# Altium integrated library NSC Interface.IntLib: 1288 symbols (part 8 of 45)
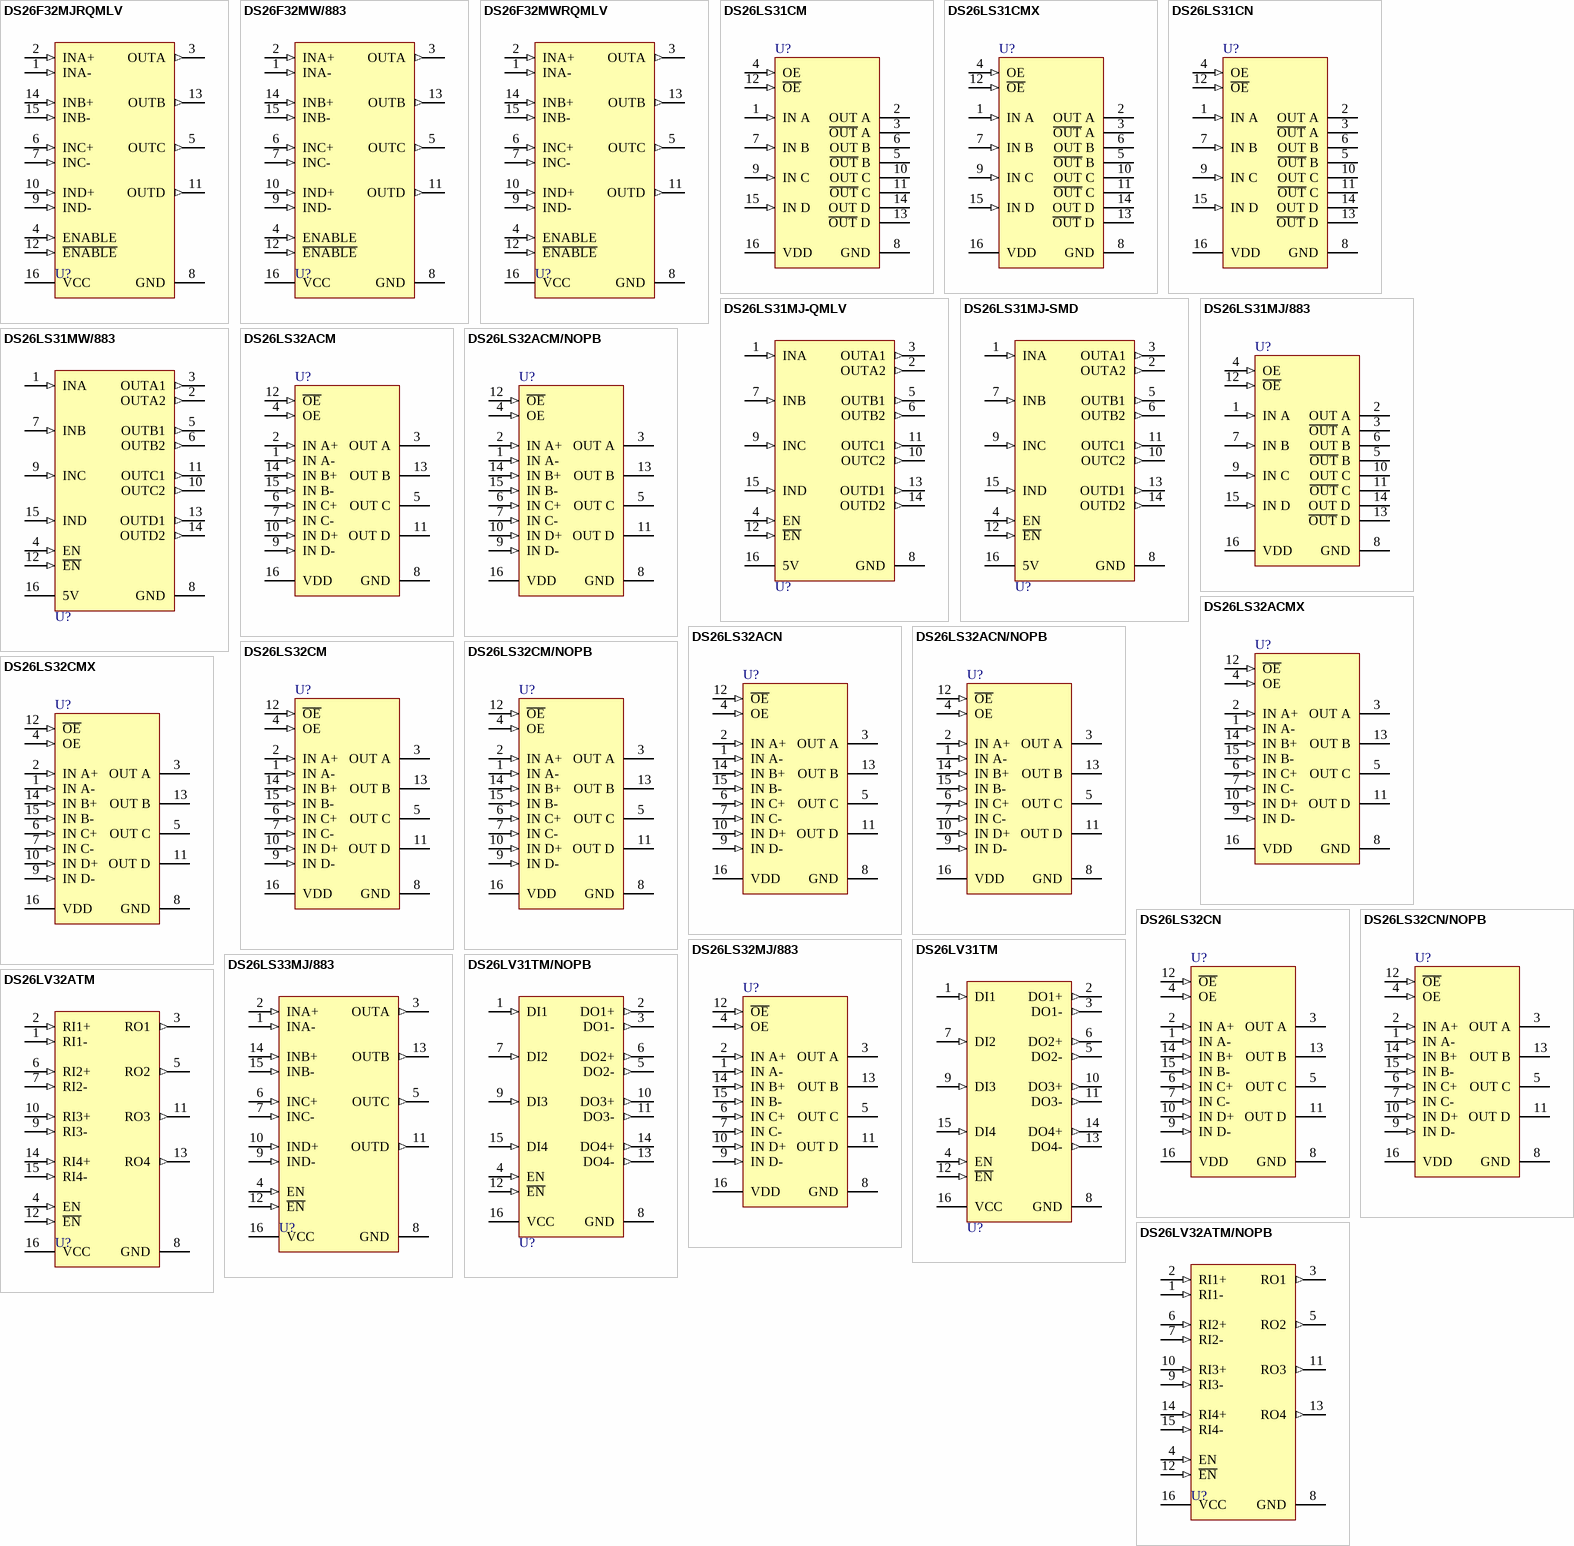
[diagram p119: symbols DS26F32MJRQMLV to DS26LV32ATM/NOPB]

## DS26LS31MJ-QMLV
designator U?
Quad High Speed Differential Line Driver, 16-pin CerDIP; PartNumber: DS26LS31MJ-SMD; Manufacturer: National Semiconductor; PackageTopMarking: NSZSSXXYYA*DS26LS31MJ-QV Q*5962-7802301VEA; PowerWise: N; CompType: Interface IC; High-Reliability: Y; Published: 4-Dec-2008; LatestRevisionDate: 01-Oct-2010; LatestRevisionNote: Updated datasheet to version Mar-2006.; DatasheetVersion: Mar-2006; PackageVersion: revL, Sep-1993; PackageReference: J16A; Publisher: Altium Limited; PackageDescription: Cerdip (J), 16 Lead; RoHS: N; PinCount: 16; ComponentLink1Description: DS26LS31M Datasheet; ComponentLink1URL: http://www.national.com/ds/DS/DS26LS31MQML.pdf; ComponentLink2Description: DS26LS31M Web Page; ComponentLink2URL: http://www.national.com/pf/DS/DS26LS31M.html; ComponentLink3Description: J16A Package Page; ComponentLink3URL: http://www.national.com/packaging/folders/j16a.html
footprint J16A (DIP, 16-Leads, Row Spacing 7.62mm, Pitch 2.54mm, Body 19.56x6.73mm)
pins: 1 INA (in), 2 OUTA2 (out), 3 OUTA1 (out), 4 EN (in), 5 OUTB1 (out), 6 OUTB2 (out), 7 INB (in), 8 GND (power), 9 INC (in), 10 OUTC2 (out), 11 OUTC1 (out), 12 ~{EN} (in), 13 OUTD1 (out), 14 OUTD2 (out), 15 IND (in), 16 5V (power)

## DS26LS31MJ-SMD
designator U?
Quad High Speed Differential Line Driver, 16-pin CerDIP; PartNumber: DS26LS31MJ/883; Manufacturer: National Semiconductor; PackageTopMarking: NSZSSXXYYA*5962-7802301MEA*27014 Q; PowerWise: N; CompType: Interface IC; High-Reliability: Y; Published: 4-Dec-2008; LatestRevisionDate: 01-Oct-2010; LatestRevisionNote: Updated datasheet to version Mar-2006.; DatasheetVersion: Mar-2006; PackageVersion: revL, Sep-1993; PackageReference: J16A; Publisher: Altium Limited; PackageDescription: Cerdip (J), 16 Lead; RoHS: N; PinCount: 16; ComponentLink1Description: DS26LS31M Datasheet; ComponentLink1URL: http://www.national.com/ds/DS/DS26LS31MQML.pdf; ComponentLink2Description: DS26LS31M Web Page; ComponentLink2URL: http://www.national.com/pf/DS/DS26LS31M.html; ComponentLink3Description: J16A Package Page; ComponentLink3URL: http://www.national.com/packaging/folders/j16a.html
footprint J16A (DIP, 16-Leads, Row Spacing 7.62mm, Pitch 2.54mm, Body 19.56x6.73mm)
pins: 1 INA (in), 2 OUTA2 (out), 3 OUTA1 (out), 4 EN (in), 5 OUTB1 (out), 6 OUTB2 (out), 7 INB (in), 8 GND (power), 9 INC (in), 10 OUTC2 (out), 11 OUTC1 (out), 12 ~{EN} (in), 13 OUTD1 (out), 14 OUTD2 (out), 15 IND (in), 16 5V (power)

## DS26LS31MJ/883
designator U?
Quad High Speed Differential Line Driver, 16-pin CerDIP; PartNumber: DS26LS31MJ-QMLV; Manufacturer: National Semiconductor; PackageTopMarking: NSZSSXXYYA*DS26LS31MJ/883 Q; PowerWise: N; CompType: Interface IC; High-Reliability: Y; Published: 4-Dec-2008; LatestRevisionDate: 01-Oct-2010; LatestRevisionNote: Updated datasheet to version Mar-2006.; DatasheetVersion: Mar-2006; PackageVersion: revL, Sep-1993; PackageReference: J16A; Publisher: Altium Limited; PackageDescription: Cerdip (J), 16 Lead; RoHS: N; PinCount: 16; ComponentLink1Description: DS26LS31M Datasheet; ComponentLink1URL: http://www.national.com/ds/DS/DS26LS31MQML.pdf; ComponentLink2Description: DS26LS31M Web Page; ComponentLink2URL: http://www.national.com/pf/DS/DS26LS31M.html; ComponentLink3Description: J16A Package Page; ComponentLink3URL: http://www.national.com/packaging/folders/j16a.html
footprint J16A (DIP, 16-Leads, Row Spacing 7.62mm, Pitch 2.54mm, Body 19.56x6.73mm)
pins: 1 IN A (in), 2 OUT A (hiz), 3 ~{OUT} A (hiz), 4 OE (in), 5 ~{OUT} B (hiz), 6 OUT B (hiz), 7 IN B (in), 8 GND (power), 9 IN C (in), 10 OUT C (hiz), 11 ~{OUT} C (hiz), 12 ~{OE} (in), 13 ~{OUT} D (hiz), 14 OUT D (hiz), 15 IN D (in), 16 VDD (power)

## DS26LS31MW/883
designator U?
Quad High Speed Differential Line Driver, 16-pin CerPACK; PartNumber: DS26LS31MW/883; Manufacturer: National Semiconductor; PackageTopMarking: NSZSSXXYYA*DS26LS31MW*/883 Q; PowerWise: N; CompType: Interface IC; High-Reliability: Y; Published: 29-May-2009; LatestRevisionDate: 01-Oct-2010; LatestRevisionNote: Updated datasheet to version Mar-2006.; DatasheetVersion: Mar-2006; PackageVersion: revT, Jul-2005; PackageReference: W16A; Publisher: Altium Limited; PackageDescription: Cerpack, .390 x .250 x .074in Body, 16 Lead, .050in Pitch; RoHS: N; PinCount: 16; Code_JEDEC: MO-092-AC; ComponentLink1Description: DS26LS31M Datasheet; ComponentLink1URL: http://www.national.com/ds/DS/DS26LS31MQML.pdf; ComponentLink2Description: DS26LS31M Web Page; ComponentLink2URL: http://www.national.com/pf/DS/DS26LS31M.html; ComponentLink3Description: W16A Package Page; ComponentLink3URL: http://www.national.com/packaging/folders/w16a.html
footprint W16A (DFP; 16 Leads; Body 9.9 x 7.6 mm (LxW max); Pitch 1.27 mm)
pins: 1 INA (in), 2 OUTA2 (out), 3 OUTA1 (out), 4 EN (in), 5 OUTB1 (out), 6 OUTB2 (out), 7 INB (in), 8 GND (power), 9 INC (in), 10 OUTC2 (out), 11 OUTC1 (out), 12 ~{EN} (in), 13 OUTD1 (out), 14 OUTD2 (out), 15 IND (in), 16 5V (power)

## DS26LS32ACM
designator U?
Quad Differential Line Receiver, 16-pin Narrow SOIC; PartNumber: DS26LS32ACM; Manufacturer: National Semiconductor; PackageTopMarking: NSUZXYTTE#*DS26LS32*ACM; PowerWise: N; CompType: Interface IC; Published: 4-Dec-2008; DatasheetVersion: May-1999; PackageVersion: revJ, Aug-1995; PackageReference: M16A; Publisher: Altium Limited; PackageDescription: Molded Package, SO, .150in Wide, 16 Lead; Supplier 1: Farnell; Supplier Part Number 1: 3177208; RoHS: N; PinCount: 16; Code_JEDEC: MS-012-AC; Code_IPC: SOIC127P600-16; ComponentLink1Description: DS26LS32AC Datasheet; ComponentLink1URL: http://www.national.com/ds/DS/DS26LS32AC.pdf; ComponentLink2Description: DS26LS32AC Web Page; ComponentLink2URL: http://www.national.com/pf/DS/DS26LS32AC.html; ComponentLink3Description: M16A Package Page; ComponentLink3URL: http://www.national.com/packaging/folders/m16a.html
footprint M16A_N (SOIC, 16-Leads, Body 9.9x3.9mm, Pitch 1.27mm, IPC Medium Density)
footprint M16A_L (SOIC, 16-Leads, Body 9.9x3.9mm, Pitch 1.27mm, IPC High Density)
footprint M16A_M (SOIC, 16-Leads, Body 9.9x3.9mm, Pitch 1.27mm, IPC Low Density)
pins: 1 IN A- (in), 2 IN A+ (in), 3 OUT A (hiz), 4 OE (in), 5 OUT C (hiz), 6 IN C+ (in), 7 IN C- (in), 8 GND (power), 9 IN D- (in), 10 IN D+ (in), 11 OUT D (hiz), 12 ~{OE} (in), 13 OUT B (hiz), 14 IN B+ (in), 15 IN B- (in), 16 VDD (power)

## DS26LS32ACM/NOPB
designator U?
Quad Differential Line Receivers, 16-pin Narrow SOIC, Pb-Free; PartNumber: DS26LS32ACM/NOPB; Manufacturer: National Semiconductor; PackageTopMarking: NSUZXYTTE#*DS26LS32*ACM; PowerWise: N; CompType: Interface IC; Published: 1-Mar-2010; DatasheetVersion: May-1999; PackageVersion: revJ, Aug-1995; PackageReference: M16A; Publisher: Altium Limited; PackageDescription: Molded Package, SO, .150in Wide, 16 Lead; Supplier 1: Digi-Key; Supplier Part Number 1: DS26LS32ACM-ND; Supplier 2: Farnell; Supplier Part Number 2: 1564610; RoHS: Y; PinCount: 16; Code_JEDEC: MS-012-AC; Code_IPC: SOIC127P600-16; ComponentLink1Description: DS26LS32AC Datasheet; ComponentLink1URL: http://www.national.com/ds/DS/DS26LS32AC.pdf; ComponentLink2Description: DS26LS32AC Web Page; ComponentLink2URL: http://www.national.com/pf/DS/DS26LS32AC.html; ComponentLink3Description: M16A Package Page; ComponentLink3URL: http://www.national.com/packaging/folders/m16a.html
footprint M16A_N (SOIC, 16-Leads, Body 9.9x3.9mm, Pitch 1.27mm, IPC Medium Density)
footprint M16A_L (SOIC, 16-Leads, Body 9.9x3.9mm, Pitch 1.27mm, IPC High Density)
footprint M16A_M (SOIC, 16-Leads, Body 9.9x3.9mm, Pitch 1.27mm, IPC Low Density)
pins: 1 IN A- (in), 2 IN A+ (in), 3 OUT A (hiz), 4 OE (in), 5 OUT C (hiz), 6 IN C+ (in), 7 IN C- (in), 8 GND (power), 9 IN D- (in), 10 IN D+ (in), 11 OUT D (hiz), 12 ~{OE} (in), 13 OUT B (hiz), 14 IN B+ (in), 15 IN B- (in), 16 VDD (power)

## DS26LS32ACMX
designator U?
Quad Differential Line Receivers, 16-pin Narrow SOIC; PartNumber: DS26LS32ACMX; Manufacturer: National Semiconductor; PackageTopMarking: NSUZXYTTE#*DS26LS32*ACM; PowerWise: N; CompType: Interface IC; Published: 1-Mar-2010; DatasheetVersion: May-1999; PackageVersion: revJ, Aug-1995; PackageReference: M16A; Publisher: Altium Limited; PackageDescription: Molded Package, SO, .150in Wide, 16 Lead; RoHS: N; PinCount: 16; Code_JEDEC: MS-012-AC; Code_IPC: SOIC127P600-16; ComponentLink1Description: DS26LS32AC Datasheet; ComponentLink1URL: http://www.national.com/ds/DS/DS26LS32AC.pdf; ComponentLink2Description: DS26LS32AC Web Page; ComponentLink2URL: http://www.national.com/pf/DS/DS26LS32AC.html; ComponentLink3Description: M16A Package Page; ComponentLink3URL: http://www.national.com/packaging/folders/m16a.html
footprint M16A_N (SOIC, 16-Leads, Body 9.9x3.9mm, Pitch 1.27mm, IPC Medium Density)
footprint M16A_L (SOIC, 16-Leads, Body 9.9x3.9mm, Pitch 1.27mm, IPC High Density)
footprint M16A_M (SOIC, 16-Leads, Body 9.9x3.9mm, Pitch 1.27mm, IPC Low Density)
pins: 1 IN A- (in), 2 IN A+ (in), 3 OUT A (hiz), 4 OE (in), 5 OUT C (hiz), 6 IN C+ (in), 7 IN C- (in), 8 GND (power), 9 IN D- (in), 10 IN D+ (in), 11 OUT D (hiz), 12 ~{OE} (in), 13 OUT B (hiz), 14 IN B+ (in), 15 IN B- (in), 16 VDD (power)

## DS26LS32ACN
designator U?
Quad Differential Line Receiver, 16-pin MDIP; PartNumber: DS26LS32ACN; Manufacturer: National Semiconductor; PackageTopMarking: NSUZXYYTTE#*DS26LS32ACN; PowerWise: N; CompType: Interface IC; Published: 4-Dec-2008; DatasheetVersion: May-1999; PackageVersion: revG, May-2006; PackageReference: N16E; Publisher: Altium Limited; PackageDescription: MDIP, .750 x .250 x .130in, 16 Lead, .100in Pitch; Supplier 1: Farnell; Supplier Part Number 1: 9487956; RoHS: N; PinCount: 16; Code_JEDEC: MS-001-BB; ComponentLink1Description: DS26LS32AC Datasheet; ComponentLink1URL: http://www.national.com/ds/DS/DS26LS32AC.pdf; ComponentLink2Description: DS26LS32AC Web Page; ComponentLink2URL: http://www.national.com/pf/DS/DS26LS32AC.html; ComponentLink3Description: N16E Package Page; ComponentLink3URL: http://www.national.com/packaging/folders/n16e.html
footprint N16E (DIP, 16-Leads, Row Spacing 7.62mm, Pitch 2.54mm, Body 19.3x6.35mm)
pins: 1 IN A- (in), 2 IN A+ (in), 3 OUT A (hiz), 4 OE (in), 5 OUT C (hiz), 6 IN C+ (in), 7 IN C- (in), 8 GND (power), 9 IN D- (in), 10 IN D+ (in), 11 OUT D (hiz), 12 ~{OE} (in), 13 OUT B (hiz), 14 IN B+ (in), 15 IN B- (in), 16 VDD (power)

## DS26LS32ACN/NOPB
designator U?
Quad Differential Line Receivers, 16-pin MDIP, Pb-Free; PartNumber: DS26LS32ACN/NOPB; Manufacturer: National Semiconductor; PackageTopMarking: NSUZXYYTTE#*DS26LS32ACN; PowerWise: N; CompType: Interface IC; Published: 1-Mar-2010; DatasheetVersion: May-1999; PackageVersion: revG, May-2006; PackageReference: N16E; Publisher: Altium Limited; PackageDescription: MDIP, .750 x .250 x .130in, 16 Lead, .100in Pitch; Supplier 1: Digi-Key; Supplier Part Number 1: DS26LS32ACN-ND; Supplier 2: Farnell; Supplier Part Number 2: 1149946; RoHS: Y; PinCount: 16; Code_JEDEC: MS-001-BB; ComponentLink1Description: DS26LS32AC Datasheet; ComponentLink1URL: http://www.national.com/ds/DS/DS26LS32AC.pdf; ComponentLink2Description: DS26LS32AC Web Page; ComponentLink2URL: http://www.national.com/pf/DS/DS26LS32AC.html; ComponentLink3Description: N16E Package Page; ComponentLink3URL: http://www.national.com/packaging/folders/n16e.html
footprint N16E (DIP, 16-Leads, Row Spacing 7.62mm, Pitch 2.54mm, Body 19.3x6.35mm)
pins: 1 IN A- (in), 2 IN A+ (in), 3 OUT A (hiz), 4 OE (in), 5 OUT C (hiz), 6 IN C+ (in), 7 IN C- (in), 8 GND (power), 9 IN D- (in), 10 IN D+ (in), 11 OUT D (hiz), 12 ~{OE} (in), 13 OUT B (hiz), 14 IN B+ (in), 15 IN B- (in), 16 VDD (power)

## DS26LS32CM
designator U?
Quad Differential Line Receiver, 16-pin Narrow SOIC; PartNumber: DS26LS32CM; Manufacturer: National Semiconductor; PackageTopMarking: NSUZXYTTE#*DS26LS32CM; PowerWise: N; CompType: Interface IC; Published: 4-Dec-2008; DatasheetVersion: May-1999; PackageVersion: revJ, Aug-1995; PackageReference: M16A; Publisher: Altium Limited; PackageDescription: Molded Package, SO, .150in Wide, 16 Lead; Supplier 1: Farnell; Supplier Part Number 1: 9487964; RoHS: N; PinCount: 16; Code_JEDEC: MS-012-AC; Code_IPC: SOIC127P600-16; ComponentLink1Description: DS26LS32C Datasheet; ComponentLink1URL: http://www.national.com/ds/DS/DS26LS32C.pdf; ComponentLink2Description: DS26LS32C Web Page; ComponentLink2URL: http://www.national.com/pf/DS/DS26LS32C.html; ComponentLink3Description: M16A Package Page; ComponentLink3URL: http://www.national.com/packaging/folders/m16a.html
footprint M16A_N (SOIC, 16-Leads, Body 9.9x3.9mm, Pitch 1.27mm, IPC Medium Density)
footprint M16A_L (SOIC, 16-Leads, Body 9.9x3.9mm, Pitch 1.27mm, IPC High Density)
footprint M16A_M (SOIC, 16-Leads, Body 9.9x3.9mm, Pitch 1.27mm, IPC Low Density)
pins: 1 IN A- (in), 2 IN A+ (in), 3 OUT A (hiz), 4 OE (in), 5 OUT C (hiz), 6 IN C+ (in), 7 IN C- (in), 8 GND (power), 9 IN D- (in), 10 IN D+ (in), 11 OUT D (hiz), 12 ~{OE} (in), 13 OUT B (hiz), 14 IN B+ (in), 15 IN B- (in), 16 VDD (power)

## DS26LS32CM/NOPB
designator U?
Quad Differential Line Receivers, 16-pin Narrow SOIC, Pb-Free; PartNumber: DS26LS32CM/NOPB; Manufacturer: National Semiconductor; PackageTopMarking: NSUZXYTTE#*DS26LS32CM; PowerWise: N; CompType: Interface IC; Published: 1-Mar-2010; DatasheetVersion: May-1999; PackageVersion: revJ, Aug-1995; PackageReference: M16A; Publisher: Altium Limited; PackageDescription: Molded Package, SO, .150in Wide, 16 Lead; Supplier 1: Digi-Key; Supplier Part Number 1: DS26LS32CM-ND; Supplier 2: Farnell; Supplier Part Number 2: 1184954; RoHS: Y; PinCount: 16; Code_JEDEC: MS-012-AC; Code_IPC: SOIC127P600-16; ComponentLink1Description: DS26LS32C Datasheet; ComponentLink1URL: http://www.national.com/ds/DS/DS26LS32C.pdf; ComponentLink2Description: DS26LS32C Web Page; ComponentLink2URL: http://www.national.com/pf/DS/DS26LS32C.html; ComponentLink3Description: M16A Package Page; ComponentLink3URL: http://www.national.com/packaging/folders/m16a.html
footprint M16A_N (SOIC, 16-Leads, Body 9.9x3.9mm, Pitch 1.27mm, IPC Medium Density)
footprint M16A_L (SOIC, 16-Leads, Body 9.9x3.9mm, Pitch 1.27mm, IPC High Density)
footprint M16A_M (SOIC, 16-Leads, Body 9.9x3.9mm, Pitch 1.27mm, IPC Low Density)
pins: 1 IN A- (in), 2 IN A+ (in), 3 OUT A (hiz), 4 OE (in), 5 OUT C (hiz), 6 IN C+ (in), 7 IN C- (in), 8 GND (power), 9 IN D- (in), 10 IN D+ (in), 11 OUT D (hiz), 12 ~{OE} (in), 13 OUT B (hiz), 14 IN B+ (in), 15 IN B- (in), 16 VDD (power)

## DS26LS32CMX
designator U?
Quad Differential Line Receivers, 16-pin Narrow SOIC; PartNumber: DS26LS32CMX; Manufacturer: National Semiconductor; PackageTopMarking: NSUZXYTTE#*DS26LS32CM; PowerWise: N; CompType: Interface IC; Published: 1-Mar-2010; DatasheetVersion: May-1999; PackageVersion: revJ, Aug-1995; PackageReference: M16A; Publisher: Altium Limited; PackageDescription: Molded Package, SO, .150in Wide, 16 Lead; RoHS: N; PinCount: 16; Code_JEDEC: MS-012-AC; Code_IPC: SOIC127P600-16; ComponentLink1Description: DS26LS32C Datasheet; ComponentLink1URL: http://www.national.com/ds/DS/DS26LS32C.pdf; ComponentLink2Description: DS26LS32C Web Page; ComponentLink2URL: http://www.national.com/pf/DS/DS26LS32C.html; ComponentLink3Description: M16A Package Page; ComponentLink3URL: http://www.national.com/packaging/folders/m16a.html
footprint M16A_N (SOIC, 16-Leads, Body 9.9x3.9mm, Pitch 1.27mm, IPC Medium Density)
footprint M16A_L (SOIC, 16-Leads, Body 9.9x3.9mm, Pitch 1.27mm, IPC High Density)
footprint M16A_M (SOIC, 16-Leads, Body 9.9x3.9mm, Pitch 1.27mm, IPC Low Density)
pins: 1 IN A- (in), 2 IN A+ (in), 3 OUT A (hiz), 4 OE (in), 5 OUT C (hiz), 6 IN C+ (in), 7 IN C- (in), 8 GND (power), 9 IN D- (in), 10 IN D+ (in), 11 OUT D (hiz), 12 ~{OE} (in), 13 OUT B (hiz), 14 IN B+ (in), 15 IN B- (in), 16 VDD (power)

## DS26LS32CN
designator U?
Quad Differential Line Receiver, 16-pin MDIP; PartNumber: DS26LS32CN; Manufacturer: National Semiconductor; PackageTopMarking: NSUZXYYTTE#*DS26LS32CN; PowerWise: N; CompType: Interface IC; Published: 4-Dec-2008; DatasheetVersion: May-1999; PackageVersion: revG, May-2006; PackageReference: N16E; Publisher: Altium Limited; PackageDescription: MDIP, .750 x .250 x .130in, 16 Lead, .100in Pitch; Supplier 1: Farnell; Supplier Part Number 1: 9487972; RoHS: N; PinCount: 16; Code_JEDEC: MS-001-BB; ComponentLink1Description: DS26LS32C Datasheet; ComponentLink1URL: http://www.national.com/ds/DS/DS26LS32C.pdf; ComponentLink2Description: DS26LS32C Web Page; ComponentLink2URL: http://www.national.com/pf/DS/DS26LS32C.html; ComponentLink3Description: N16E Package Page; ComponentLink3URL: http://www.national.com/packaging/folders/n16e.html
footprint N16E (DIP, 16-Leads, Row Spacing 7.62mm, Pitch 2.54mm, Body 19.3x6.35mm)
pins: 1 IN A- (in), 2 IN A+ (in), 3 OUT A (hiz), 4 OE (in), 5 OUT C (hiz), 6 IN C+ (in), 7 IN C- (in), 8 GND (power), 9 IN D- (in), 10 IN D+ (in), 11 OUT D (hiz), 12 ~{OE} (in), 13 OUT B (hiz), 14 IN B+ (in), 15 IN B- (in), 16 VDD (power)

## DS26LS32CN/NOPB
designator U?
Quad Differential Line Receivers, 16-pin MDIP, Pb-Free; PartNumber: DS26LS32CN/NOPB; Manufacturer: National Semiconductor; PackageTopMarking: NSUZXYYTTE#*DS26LS32CN; PowerWise: N; CompType: Interface IC; Published: 1-Mar-2010; DatasheetVersion: May-1999; PackageVersion: revG, May-2006; PackageReference: N16E; Publisher: Altium Limited; PackageDescription: MDIP, .750 x .250 x .130in, 16 Lead, .100in Pitch; Supplier 1: Digi-Key; Supplier Part Number 1: DS26LS32CN-ND; Supplier 2: Farnell; Supplier Part Number 2: 1149947; RoHS: Y; PinCount: 16; Code_JEDEC: MS-001-BB; ComponentLink1Description: DS26LS32C Datasheet; ComponentLink1URL: http://www.national.com/ds/DS/DS26LS32C.pdf; ComponentLink2Description: DS26LS32C Web Page; ComponentLink2URL: http://www.national.com/pf/DS/DS26LS32C.html; ComponentLink3Description: N16E Package Page; ComponentLink3URL: http://www.national.com/packaging/folders/n16e.html
footprint N16E (DIP, 16-Leads, Row Spacing 7.62mm, Pitch 2.54mm, Body 19.3x6.35mm)
pins: 1 IN A- (in), 2 IN A+ (in), 3 OUT A (hiz), 4 OE (in), 5 OUT C (hiz), 6 IN C+ (in), 7 IN C- (in), 8 GND (power), 9 IN D- (in), 10 IN D+ (in), 11 OUT D (hiz), 12 ~{OE} (in), 13 OUT B (hiz), 14 IN B+ (in), 15 IN B- (in), 16 VDD (power)

## DS26LS32MJ/883
designator U?
Quad Differential Line Receiver, 16-pin CerDIP; PartNumber: DS26LS32MJ/883; Manufacturer: National Semiconductor; PackageTopMarking: NSZSSXXYYA*5962-7802006QEA*DS26LS32MJ/883 Q; PowerWise: N; CompType: Interface IC; High-Reliability: Y; Published: 4-Dec-2008; DatasheetVersion: May-1999; PackageVersion: revL, Sep-1993; PackageReference: J16A; Publisher: Altium Limited; PackageDescription: Cerdip (J), 16 Lead; RoHS: N; PinCount: 16; ComponentLink1Description: DS26LS32M Datasheet; ComponentLink1URL: http://www.national.com/ds/DS/DS26LS32MQML.pdf; ComponentLink2Description: DS26LS32M Web Page; ComponentLink2URL: http://www.national.com/pf/DS/DS26LS32M.html; ComponentLink3Description: J16A Package Page; ComponentLink3URL: http://www.national.com/packaging/folders/j16a.html
footprint J16A (DIP, 16-Leads, Row Spacing 7.62mm, Pitch 2.54mm, Body 19.56x6.73mm)
pins: 1 IN A- (in), 2 IN A+ (in), 3 OUT A (hiz), 4 OE (in), 5 OUT C (hiz), 6 IN C+ (in), 7 IN C- (in), 8 GND (power), 9 IN D- (in), 10 IN D+ (in), 11 OUT D (hiz), 12 ~{OE} (in), 13 OUT B (hiz), 14 IN B+ (in), 15 IN B- (in), 16 VDD (power)

## DS26LS33MJ/883
designator U?
Quad Differential Line Receiver, 16-pin CerDIP; PartNumber: DS26LS33MJ/883; Manufacturer: National Semiconductor; PackageTopMarking: NSZSSXXYYA*DS26LS33MJ/883 Q; PowerWise: N; CompType: Interface IC; High-Reliability: Y; Published: 4-Dec-2008; DatasheetVersion: May-1999; PackageVersion: revL, Sep-1993; PackageReference: J16A; Publisher: Altium Limited; PackageDescription: Cerdip (J), 16 Lead; RoHS: N; PinCount: 16; ComponentLink1Description: DS26LS33M Datasheet; ComponentLink1URL: http://www.national.com/ds/DS/DS26LS33M.pdf; ComponentLink2Description: DS26LS33M Web Page; ComponentLink2URL: http://www.national.com/pf/DS/DS26LS33M.html; ComponentLink3Description: J16A Package Page; ComponentLink3URL: http://www.national.com/packaging/folders/j16a.html
footprint J16A (DIP, 16-Leads, Row Spacing 7.62mm, Pitch 2.54mm, Body 19.56x6.73mm)
pins: 1 INA- (in), 2 INA+ (in), 3 OUTA (out), 4 EN (in), 5 OUTC (out), 6 INC+ (in), 7 INC- (in), 8 GND (power), 9 IND- (in), 10 IND+ (in), 11 OUTD (out), 12 ~{EN} (in), 13 OUTB (out), 14 INB+ (in), 15 INB- (in), 16 VCC (power)

## DS26LV31TM
designator U?
3V Enhanced CMOS Quad Differential Line Driver, 16-pin Narrow SOIC; PartNumber: DS26LV31TM; Manufacturer: National Semiconductor; PackageTopMarking: NSUZXYTTE#*DS26LV31*TM; PowerWise: N; CompType: Interface IC; Published: 4-Dec-2008; DatasheetVersion: Mar-2000; PackageVersion: revJ, Aug-1995; PackageReference: M16A; Publisher: Altium Limited; PackageDescription: Molded Package, SO, .150in Wide, 16 Lead; Supplier 1: Farnell; Supplier Part Number 1: 198225; RoHS: N; PinCount: 16; Code_JEDEC: MS-012-AC; Code_IPC: SOIC127P600-16; ComponentLink1Description: DS26LV31T Datasheet; ComponentLink1URL: http://www.national.com/ds/DS/DS26LV31T.pdf; ComponentLink2Description: DS26LV31T Web Page; ComponentLink2URL: http://www.national.com/pf/DS/DS26LV31T.html; ComponentLink3Description: M16A Package Page; ComponentLink3URL: http://www.national.com/packaging/folders/m16a.html
footprint M16A_N (SOIC, 16-Leads, Body 9.9x3.9mm, Pitch 1.27mm, IPC Medium Density)
footprint M16A_L (SOIC, 16-Leads, Body 9.9x3.9mm, Pitch 1.27mm, IPC High Density)
footprint M16A_M (SOIC, 16-Leads, Body 9.9x3.9mm, Pitch 1.27mm, IPC Low Density)
pins: 1 DI1 (in), 2 DO1+ (out), 3 DO1- (out), 4 EN (in), 5 DO2- (out), 6 DO2+ (out), 7 DI2 (in), 8 GND (power), 9 DI3 (in), 10 DO3+ (out), 11 DO3- (out), 12 ~{EN} (in), 13 DO4- (out), 14 DO4+ (out), 15 DI4 (in), 16 VCC (power)

## DS26LV31TM/NOPB
designator U?
3V Enhanced CMOS Quad Differential Line Driver, 16-pin Narrow SOIC, Pb-Free; PartNumber: DS26LV31TM/NOPB; Manufacturer: National Semiconductor; PackageTopMarking: NSUZXYTTE#*DS26LV31*TM; PowerWise: N; CompType: Interface IC; Published: 1-Mar-2010; DatasheetVersion: Mar-2000; PackageVersion: revJ, Aug-1995; PackageReference: M16A; Publisher: Altium Limited; PackageDescription: Molded Package, SO, .150in Wide, 16 Lead; Supplier 1: Digi-Key; Supplier Part Number 1: DS26LV31TM-ND; Supplier 2: Farnell; Supplier Part Number 2: 1468969; RoHS: Y; PinCount: 16; Code_JEDEC: MS-012-AC; Code_IPC: SOIC127P600-16; ComponentLink1Description: DS26LV31T Datasheet; ComponentLink1URL: http://www.national.com/ds/DS/DS26LV31T.pdf; ComponentLink2Description: DS26LV31T Web Page; ComponentLink2URL: http://www.national.com/pf/DS/DS26LV31T.html; ComponentLink3Description: M16A Package Page; ComponentLink3URL: http://www.national.com/packaging/folders/m16a.html
footprint M16A_N (SOIC, 16-Leads, Body 9.9x3.9mm, Pitch 1.27mm, IPC Medium Density)
footprint M16A_L (SOIC, 16-Leads, Body 9.9x3.9mm, Pitch 1.27mm, IPC High Density)
footprint M16A_M (SOIC, 16-Leads, Body 9.9x3.9mm, Pitch 1.27mm, IPC Low Density)
pins: 1 DI1 (in), 2 DO1+ (out), 3 DO1- (out), 4 EN (in), 5 DO2- (out), 6 DO2+ (out), 7 DI2 (in), 8 GND (power), 9 DI3 (in), 10 DO3+ (out), 11 DO3- (out), 12 ~{EN} (in), 13 DO4- (out), 14 DO4+ (out), 15 DI4 (in), 16 VCC (power)

## DS26LV32ATM
designator U?
3V Enhanced CMOS Quad Differential Line Receiver, 16-pin Narrow SOIC; PartNumber: DS26LV32ATM; Manufacturer: National Semiconductor; PackageTopMarking: NSUZXYTTE#*DS26LV32A*TM; PowerWise: N; CompType: Interface IC; Published: 4-Dec-2008; DatasheetVersion: Apr-2008; PackageVersion: revJ, Aug-1995; PackageReference: M16A; Publisher: Altium Limited; PackageDescription: Molded Package, SO, .150in Wide, 16 Lead; Supplier 1: Farnell; Supplier Part Number 1: 198237; RoHS: N; PinCount: 16; Code_JEDEC: MS-012-AC; Code_IPC: SOIC127P600-16; ComponentLink1Description: DS26LV32AT Datasheet; ComponentLink1URL: http://www.national.com/ds/DS/DS26LV32AT.pdf; ComponentLink2Description: DS26LV32AT Web Page; ComponentLink2URL: http://www.national.com/pf/DS/DS26LV32AT.html; ComponentLink3Description: M16A Package Page; ComponentLink3URL: http://www.national.com/packaging/folders/m16a.html
footprint M16A_N (SOIC, 16-Leads, Body 9.9x3.9mm, Pitch 1.27mm, IPC Medium Density)
footprint M16A_L (SOIC, 16-Leads, Body 9.9x3.9mm, Pitch 1.27mm, IPC High Density)
footprint M16A_M (SOIC, 16-Leads, Body 9.9x3.9mm, Pitch 1.27mm, IPC Low Density)
pins: 1 RI1- (in), 2 RI1+ (in), 3 RO1 (out), 4 EN (in), 5 RO2 (out), 6 RI2+ (in), 7 RI2- (in), 8 GND (power), 9 RI3- (in), 10 RI3+ (in), 11 RO3 (out), 12 ~{EN} (in), 13 RO4 (out), 14 RI4+ (in), 15 RI4- (in), 16 VCC (power)

## DS26LV32ATM/NOPB
designator U?
3V Enhanced CMOS Quad Differential Line Receiver, 16-pin Narrow SOIC, Pb-Free; PartNumber: DS26LV32ATM/NOPB; Manufacturer: National Semiconductor; PackageTopMarking: NSUZXYTTE#*DS26LV32A*TM; PowerWise: N; CompType: Interface IC; Published: 1-Mar-2010; DatasheetVersion: Apr-2008; PackageVersion: revJ, Aug-1995; PackageReference: M16A; Publisher: Altium Limited; PackageDescription: Molded Package, SO, .150in Wide, 16 Lead; Supplier 1: Digi-Key; Supplier Part Number 1: DS26LV32ATM-ND; Supplier 2: Farnell; Supplier Part Number 2: 1468999; RoHS: Y; PinCount: 16; Code_JEDEC: MS-012-AC; Code_IPC: SOIC127P600-16; ComponentLink1Description: DS26LV32AT Datasheet; ComponentLink1URL: http://www.national.com/ds/DS/DS26LV32AT.pdf; ComponentLink2Description: DS26LV32AT Web Page; ComponentLink2URL: http://www.national.com/pf/DS/DS26LV32AT.html; ComponentLink3Description: M16A Package Page; ComponentLink3URL: http://www.national.com/packaging/folders/m16a.html
footprint M16A_N (SOIC, 16-Leads, Body 9.9x3.9mm, Pitch 1.27mm, IPC Medium Density)
footprint M16A_L (SOIC, 16-Leads, Body 9.9x3.9mm, Pitch 1.27mm, IPC High Density)
footprint M16A_M (SOIC, 16-Leads, Body 9.9x3.9mm, Pitch 1.27mm, IPC Low Density)
pins: 1 RI1- (in), 2 RI1+ (in), 3 RO1 (out), 4 EN (in), 5 RO2 (out), 6 RI2+ (in), 7 RI2- (in), 8 GND (power), 9 RI3- (in), 10 RI3+ (in), 11 RO3 (out), 12 ~{EN} (in), 13 RO4 (out), 14 RI4+ (in), 15 RI4- (in), 16 VCC (power)

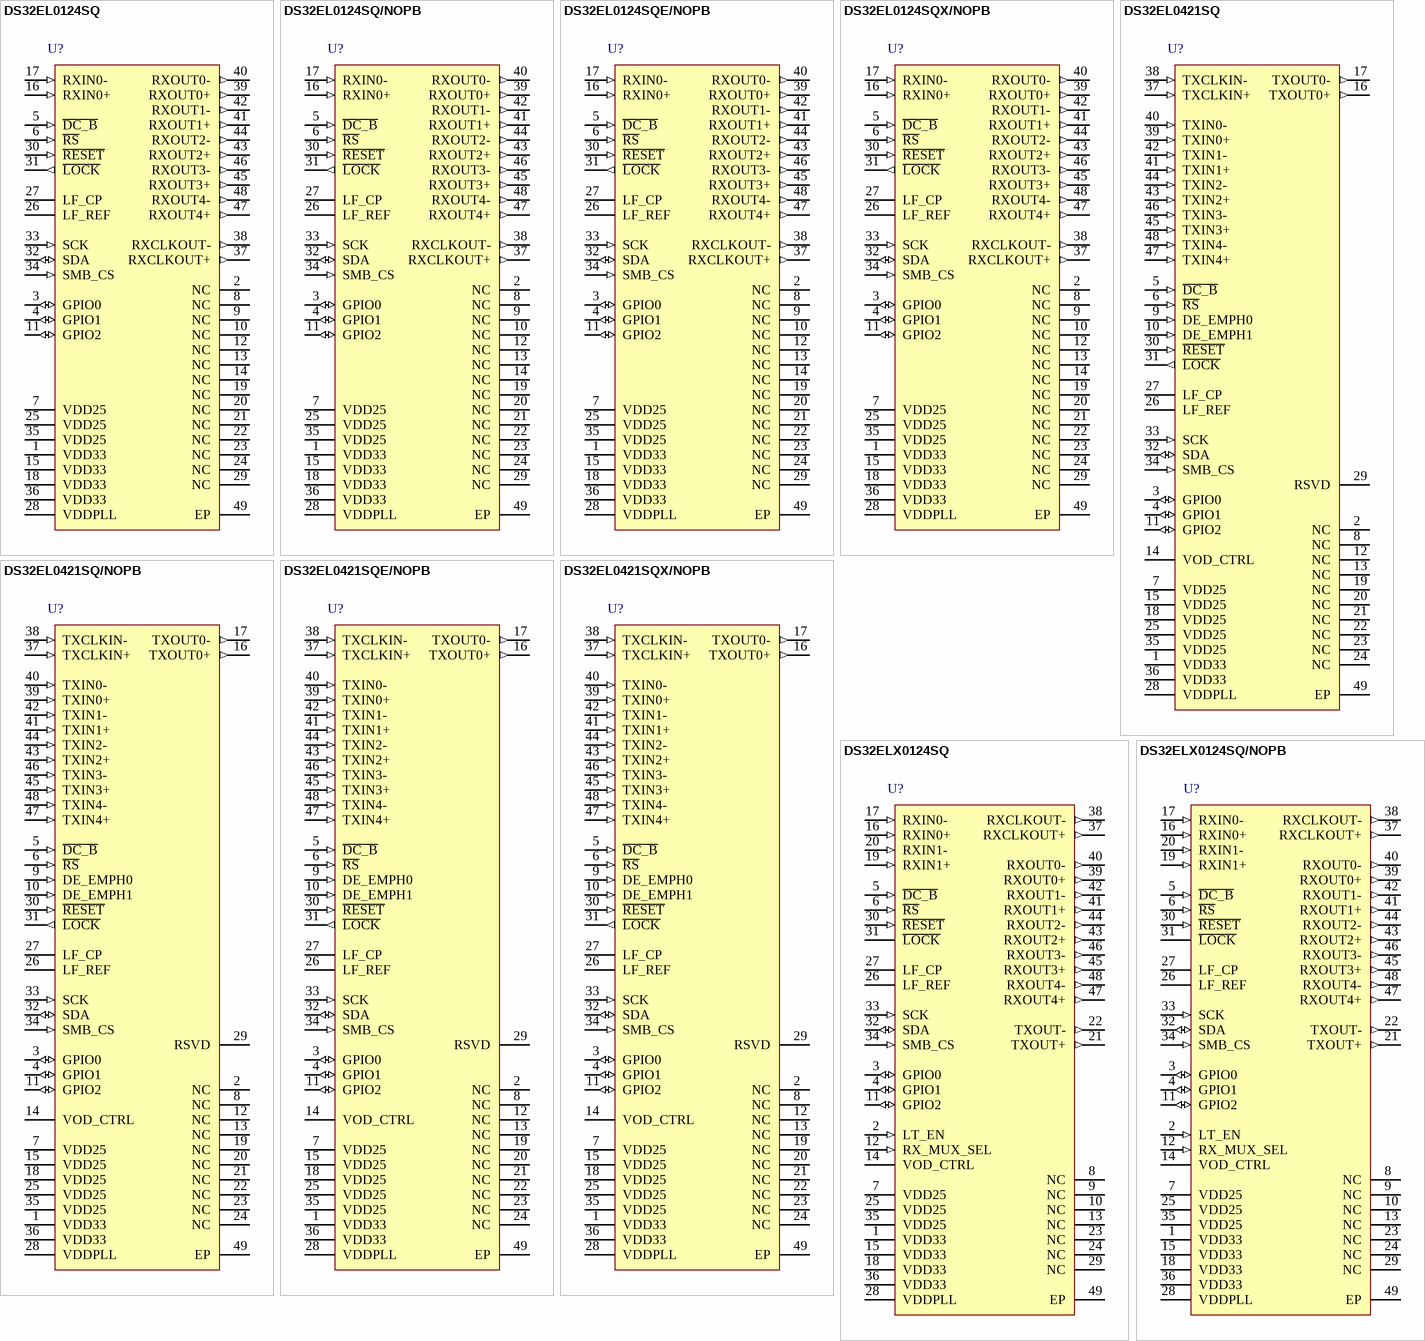
[diagram p20: symbols DS32EL0124SQ to DS32ELX0124SQ/NOPB]

## DS32EL0124SQ
designator U?
125 - 312.5 MHz Deserializer with DDR LVDS Parallel Interface, 48-pin LLP; PartNumber: DS32EL0124SQ; Manufacturer: National Semiconductor; PackageTopMarking: NS*UZXYTT*32EL0124; PowerWise: N; CompType: Interface IC; Published: 4-Dec-2008; DatasheetVersion: Jul-2008; PackageVersion: revB, May-2009; PackageReference: SQA48A; Publisher: Altium Limited; PackageDescription: LLP, Plastic, Quad, 7 x 7 x 0.8mm Body, 48 Lead, 0.5mm Pitch, No Pullback; RoHS: Y; PinCount: 48; Code_JEDEC: MO-220-WKKD-2; ComponentLink1Description: DS32EL0124 Datasheet; ComponentLink1URL: http://www.national.com/ds/DS/DS32EL0124.pdf; ComponentLink2Description: DS32EL0124 Web Page; ComponentLink2URL: http://www.national.com/pf/DS/DS32EL0124.html; ComponentLink3Description: SQA48A Package Page; ComponentLink3URL: http://www.national.com/packaging/folders/sqa48a.html
footprint SQA48A (QFN, 48-Leads, Body 7x7mm, Pitch 0.5mm, NSC Recommended)
pins: 1 VDD33 (power), 2 NC, 3 GPIO0 (io), 4 GPIO1 (io), 5 ~{DC_B} (in), 6 ~{RS} (in), 7 VDD25 (power), 8 NC, 9 NC, 10 NC, 11 GPIO2 (io), 12 NC, 13 NC, 14 NC, 15 VDD33 (power), 16 RXIN0+ (in), 17 RXIN0- (in), 18 VDD33 (power), 19 NC, 20 NC, 21 NC, 22 NC, 23 NC, 24 NC, 25 VDD25 (power), 26 LF_REF, 27 LF_CP, 28 VDDPLL (power), 29 NC, 30 ~{RESET} (in), 31 ~{LOCK} (out), 32 SDA (io), 33 SCK (in), 34 SMB_CS (in), 35 VDD25 (power), 36 VDD33 (power), 37 RXCLKOUT+ (out), 38 RXCLKOUT- (out), 39 RXOUT0+ (out), 40 RXOUT0- (out), 41 RXOUT1+ (out), 42 RXOUT1- (out), 43 RXOUT2+ (out), 44 RXOUT2- (out), 45 RXOUT3+ (out), 46 RXOUT3- (out), 47 RXOUT4+ (out), 48 RXOUT4- (out), 49 EP (power)

## DS32EL0124SQ/NOPB
designator U?
125 - 312.5 MHz Deserializer with DDR LVDS Parallel Interface, 48-pin LLP, Pb-Free; PartNumber: DS32EL0124SQ/NOPB; Manufacturer: National Semiconductor; PackageTopMarking: NS*UZXYTTE#*32EL0124; PowerWise: N; CompType: Interface IC; Published: 1-Mar-2010; DatasheetVersion: Jul-2008; PackageVersion: revB, May-2009; PackageReference: SQA48A; Publisher: Altium Limited; PackageDescription: LLP, Plastic, Quad, 7 x 7 x 0.8mm Body, 48 Lead, 0.5mm Pitch, No Pullback; Supplier 1: Digi-Key; Supplier Part Number 1: DS32EL0124SQ-ND; RoHS: Y; PinCount: 48; Code_JEDEC: MO-220-WKKD-2; ComponentLink1Description: DS32EL0124 Datasheet; ComponentLink1URL: http://www.national.com/ds/DS/DS32EL0124.pdf; ComponentLink2Description: DS32EL0124 Web Page; ComponentLink2URL: http://www.national.com/pf/DS/DS32EL0124.html; ComponentLink3Description: SQA48A Package Page; ComponentLink3URL: http://www.national.com/packaging/folders/sqa48a.html
footprint SQA48A (QFN, 48-Leads, Body 7x7mm, Pitch 0.5mm, NSC Recommended)
pins: 1 VDD33 (power), 2 NC, 3 GPIO0 (io), 4 GPIO1 (io), 5 ~{DC_B} (in), 6 ~{RS} (in), 7 VDD25 (power), 8 NC, 9 NC, 10 NC, 11 GPIO2 (io), 12 NC, 13 NC, 14 NC, 15 VDD33 (power), 16 RXIN0+ (in), 17 RXIN0- (in), 18 VDD33 (power), 19 NC, 20 NC, 21 NC, 22 NC, 23 NC, 24 NC, 25 VDD25 (power), 26 LF_REF, 27 LF_CP, 28 VDDPLL (power), 29 NC, 30 ~{RESET} (in), 31 ~{LOCK} (out), 32 SDA (io), 33 SCK (in), 34 SMB_CS (in), 35 VDD25 (power), 36 VDD33 (power), 37 RXCLKOUT+ (out), 38 RXCLKOUT- (out), 39 RXOUT0+ (out), 40 RXOUT0- (out), 41 RXOUT1+ (out), 42 RXOUT1- (out), 43 RXOUT2+ (out), 44 RXOUT2- (out), 45 RXOUT3+ (out), 46 RXOUT3- (out), 47 RXOUT4+ (out), 48 RXOUT4- (out), 49 EP (power)

## DS32EL0124SQE/NOPB
designator U?
125 - 312.5 MHz Deserializer with DDR LVDS Parallel Interface, 48-pin LLP, Pb-Free; PartNumber: DS32EL0124SQE/NOPB; Manufacturer: National Semiconductor; PackageTopMarking: NS*UZXYTTE#*32EL0124; PowerWise: N; CompType: Interface IC; Published: 1-Mar-2010; DatasheetVersion: Jul-2008; PackageVersion: revB, May-2009; PackageReference: SQA48A; Publisher: Altium Limited; PackageDescription: LLP, Plastic, Quad, 7 x 7 x 0.8mm Body, 48 Lead, 0.5mm Pitch, No Pullback; Supplier 1: Digi-Key; Supplier Part Number 1: DS32EL0124SQETR-ND; Supplier 2: Digi-Key; Supplier Part Number 2: DS32EL0124SQECT-ND; Supplier 3: Digi-Key; Supplier Part Number 3: DS32EL0124SQEDKR-ND; RoHS: Y; PinCount: 48; Code_JEDEC: MO-220-WKKD-2; ComponentLink1Description: DS32EL0124 Datasheet; ComponentLink1URL: http://www.national.com/ds/DS/DS32EL0124.pdf; ComponentLink2Description: DS32EL0124 Web Page; ComponentLink2URL: http://www.national.com/pf/DS/DS32EL0124.html; ComponentLink3Description: SQA48A Package Page; ComponentLink3URL: http://www.national.com/packaging/folders/sqa48a.html
footprint SQA48A (QFN, 48-Leads, Body 7x7mm, Pitch 0.5mm, NSC Recommended)
pins: 1 VDD33 (power), 2 NC, 3 GPIO0 (io), 4 GPIO1 (io), 5 ~{DC_B} (in), 6 ~{RS} (in), 7 VDD25 (power), 8 NC, 9 NC, 10 NC, 11 GPIO2 (io), 12 NC, 13 NC, 14 NC, 15 VDD33 (power), 16 RXIN0+ (in), 17 RXIN0- (in), 18 VDD33 (power), 19 NC, 20 NC, 21 NC, 22 NC, 23 NC, 24 NC, 25 VDD25 (power), 26 LF_REF, 27 LF_CP, 28 VDDPLL (power), 29 NC, 30 ~{RESET} (in), 31 ~{LOCK} (out), 32 SDA (io), 33 SCK (in), 34 SMB_CS (in), 35 VDD25 (power), 36 VDD33 (power), 37 RXCLKOUT+ (out), 38 RXCLKOUT- (out), 39 RXOUT0+ (out), 40 RXOUT0- (out), 41 RXOUT1+ (out), 42 RXOUT1- (out), 43 RXOUT2+ (out), 44 RXOUT2- (out), 45 RXOUT3+ (out), 46 RXOUT3- (out), 47 RXOUT4+ (out), 48 RXOUT4- (out), 49 EP (power)

## DS32EL0124SQX/NOPB
designator U?
125 - 312.5 MHz Deserializer with DDR LVDS Parallel Interface, 48-pin LLP, Pb-Free; PartNumber: DS32EL0124SQX/NOPB; Manufacturer: National Semiconductor; PackageTopMarking: NS*UZXYTTE#*32EL0124; PowerWise: N; CompType: Interface IC; Published: 1-Mar-2010; DatasheetVersion: Jul-2008; PackageVersion: revB, May-2009; PackageReference: SQA48A; Publisher: Altium Limited; PackageDescription: LLP, Plastic, Quad, 7 x 7 x 0.8mm Body, 48 Lead, 0.5mm Pitch, No Pullback; Supplier 1: Digi-Key; Supplier Part Number 1: DS32EL0124SQX-ND; RoHS: Y; PinCount: 48; Code_JEDEC: MO-220-WKKD-2; ComponentLink1Description: DS32EL0124 Datasheet; ComponentLink1URL: http://www.national.com/ds/DS/DS32EL0124.pdf; ComponentLink2Description: DS32EL0124 Web Page; ComponentLink2URL: http://www.national.com/pf/DS/DS32EL0124.html; ComponentLink3Description: SQA48A Package Page; ComponentLink3URL: http://www.national.com/packaging/folders/sqa48a.html
footprint SQA48A (QFN, 48-Leads, Body 7x7mm, Pitch 0.5mm, NSC Recommended)
pins: 1 VDD33 (power), 2 NC, 3 GPIO0 (io), 4 GPIO1 (io), 5 ~{DC_B} (in), 6 ~{RS} (in), 7 VDD25 (power), 8 NC, 9 NC, 10 NC, 11 GPIO2 (io), 12 NC, 13 NC, 14 NC, 15 VDD33 (power), 16 RXIN0+ (in), 17 RXIN0- (in), 18 VDD33 (power), 19 NC, 20 NC, 21 NC, 22 NC, 23 NC, 24 NC, 25 VDD25 (power), 26 LF_REF, 27 LF_CP, 28 VDDPLL (power), 29 NC, 30 ~{RESET} (in), 31 ~{LOCK} (out), 32 SDA (io), 33 SCK (in), 34 SMB_CS (in), 35 VDD25 (power), 36 VDD33 (power), 37 RXCLKOUT+ (out), 38 RXCLKOUT- (out), 39 RXOUT0+ (out), 40 RXOUT0- (out), 41 RXOUT1+ (out), 42 RXOUT1- (out), 43 RXOUT2+ (out), 44 RXOUT2- (out), 45 RXOUT3+ (out), 46 RXOUT3- (out), 47 RXOUT4+ (out), 48 RXOUT4- (out), 49 EP (power)

## DS32EL0421SQ
designator U?
125 - 312.5 MHz Serializer with DDR LVDS Parallel LVDS Interface, 48-pin LLP; PartNumber: DS32EL0421SQ; Manufacturer: National Semiconductor; PackageTopMarking: NS*UZXYTT*32EL0421; PowerWise: N; CompType: Interface IC; Published: 4-Dec-2008; DatasheetVersion: Jul-2008; PackageVersion: revB, May-2009; PackageReference: SQA48A; Publisher: Altium Limited; PackageDescription: LLP, Plastic, Quad, 7 x 7 x 0.8mm Body, 48 Lead, 0.5mm Pitch, No Pullback; RoHS: Y; PinCount: 48; Code_JEDEC: MO-220-WKKD-2; ComponentLink1Description: DS32EL0421 Datasheet; ComponentLink1URL: http://www.national.com/ds/DS/DS32EL0421.pdf; ComponentLink2Description: DS32EL0421 Web Page; ComponentLink2URL: http://www.national.com/pf/DS/DS32EL0421.html; ComponentLink3Description: SQA48A Package Page; ComponentLink3URL: http://www.national.com/packaging/folders/sqa48a.html
footprint SQA48A (QFN, 48-Leads, Body 7x7mm, Pitch 0.5mm, NSC Recommended)
pins: 1 VDD33 (power), 2 NC, 3 GPIO0 (io), 4 GPIO1 (io), 5 ~{DC_B} (in), 6 ~{RS} (in), 7 VDD25 (power), 8 NC, 9 DE_EMPH0 (in), 10 DE_EMPH1 (in), 11 GPIO2 (io), 12 NC, 13 NC, 14 VOD_CTRL, 15 VDD25 (power), 16 TXOUT0+ (out), 17 TXOUT0- (out), 18 VDD25 (power), 19 NC, 20 NC, 21 NC, 22 NC, 23 NC, 24 NC, 25 VDD25 (power), 26 LF_REF, 27 LF_CP, 28 VDDPLL (power), 29 RSVD, 30 ~{RESET} (in), 31 ~{LOCK} (out), 32 SDA (io), 33 SCK (in), 34 SMB_CS (in), 35 VDD25 (power), 36 VDD33 (power), 37 TXCLKIN+ (in), 38 TXCLKIN- (in), 39 TXIN0+ (in), 40 TXIN0- (in), 41 TXIN1+ (in), 42 TXIN1- (in), 43 TXIN2+ (in), 44 TXIN2- (in), 45 TXIN3+ (in), 46 TXIN3- (in), 47 TXIN4+ (in), 48 TXIN4- (in), 49 EP (power)

## DS32EL0421SQ/NOPB
designator U?
125 - 312.5 MHz FPGA-Link Serializer with DDR LVDS Parallel Interface, 48-pin LLP, Pb-Free; PartNumber: DS32EL0421SQ/NOPB; Manufacturer: National Semiconductor; PackageTopMarking: NS*UZXYTTE#*32EL0421; PowerWise: N; CompType: Interface IC; Published: 1-Mar-2010; DatasheetVersion: Jul-2008; PackageVersion: revB, May-2009; PackageReference: SQA48A; Publisher: Altium Limited; PackageDescription: LLP, Plastic, Quad, 7 x 7 x 0.8mm Body, 48 Lead, 0.5mm Pitch, No Pullback; Supplier 1: Digi-Key; Supplier Part Number 1: DS32EL0421SQ-ND; RoHS: Y; PinCount: 48; Code_JEDEC: MO-220-WKKD-2; ComponentLink1Description: DS32EL0421 Datasheet; ComponentLink1URL: http://www.national.com/ds/DS/DS32EL0421.pdf; ComponentLink2Description: DS32EL0421 Web Page; ComponentLink2URL: http://www.national.com/pf/DS/DS32EL0421.html; ComponentLink3Description: SQA48A Package Page; ComponentLink3URL: http://www.national.com/packaging/folders/sqa48a.html
footprint SQA48A (QFN, 48-Leads, Body 7x7mm, Pitch 0.5mm, NSC Recommended)
pins: 1 VDD33 (power), 2 NC, 3 GPIO0 (io), 4 GPIO1 (io), 5 ~{DC_B} (in), 6 ~{RS} (in), 7 VDD25 (power), 8 NC, 9 DE_EMPH0 (in), 10 DE_EMPH1 (in), 11 GPIO2 (io), 12 NC, 13 NC, 14 VOD_CTRL, 15 VDD25 (power), 16 TXOUT0+ (out), 17 TXOUT0- (out), 18 VDD25 (power), 19 NC, 20 NC, 21 NC, 22 NC, 23 NC, 24 NC, 25 VDD25 (power), 26 LF_REF, 27 LF_CP, 28 VDDPLL (power), 29 RSVD, 30 ~{RESET} (in), 31 ~{LOCK} (out), 32 SDA (io), 33 SCK (in), 34 SMB_CS (in), 35 VDD25 (power), 36 VDD33 (power), 37 TXCLKIN+ (in), 38 TXCLKIN- (in), 39 TXIN0+ (in), 40 TXIN0- (in), 41 TXIN1+ (in), 42 TXIN1- (in), 43 TXIN2+ (in), 44 TXIN2- (in), 45 TXIN3+ (in), 46 TXIN3- (in), 47 TXIN4+ (in), 48 TXIN4- (in), 49 EP (power)

## DS32EL0421SQE/NOPB
designator U?
125 - 312.5 MHz FPGA-Link Serializer with DDR LVDS Parallel Interface, 48-pin LLP, Pb-Free; PartNumber: DS32EL0421SQE/NOPB; Manufacturer: National Semiconductor; PackageTopMarking: NS*UZXYTTE#*32EL0421; PowerWise: N; CompType: Interface IC; Published: 1-Mar-2010; DatasheetVersion: Jul-2008; PackageVersion: revB, May-2009; PackageReference: SQA48A; Publisher: Altium Limited; PackageDescription: LLP, Plastic, Quad, 7 x 7 x 0.8mm Body, 48 Lead, 0.5mm Pitch, No Pullback; Supplier 1: Digi-Key; Supplier Part Number 1: DS32EL0421SQETR-ND; Supplier 2: Digi-Key; Supplier Part Number 2: DS32EL0421SQECT-ND; Supplier 3: Digi-Key; Supplier Part Number 3: DS32EL0421SQEDKR-ND; RoHS: Y; PinCount: 48; Code_JEDEC: MO-220-WKKD-2; ComponentLink1Description: DS32EL0421 Datasheet; ComponentLink1URL: http://www.national.com/ds/DS/DS32EL0421.pdf; ComponentLink2Description: DS32EL0421 Web Page; ComponentLink2URL: http://www.national.com/pf/DS/DS32EL0421.html; ComponentLink3Description: SQA48A Package Page; ComponentLink3URL: http://www.national.com/packaging/folders/sqa48a.html
footprint SQA48A (QFN, 48-Leads, Body 7x7mm, Pitch 0.5mm, NSC Recommended)
pins: 1 VDD33 (power), 2 NC, 3 GPIO0 (io), 4 GPIO1 (io), 5 ~{DC_B} (in), 6 ~{RS} (in), 7 VDD25 (power), 8 NC, 9 DE_EMPH0 (in), 10 DE_EMPH1 (in), 11 GPIO2 (io), 12 NC, 13 NC, 14 VOD_CTRL, 15 VDD25 (power), 16 TXOUT0+ (out), 17 TXOUT0- (out), 18 VDD25 (power), 19 NC, 20 NC, 21 NC, 22 NC, 23 NC, 24 NC, 25 VDD25 (power), 26 LF_REF, 27 LF_CP, 28 VDDPLL (power), 29 RSVD, 30 ~{RESET} (in), 31 ~{LOCK} (out), 32 SDA (io), 33 SCK (in), 34 SMB_CS (in), 35 VDD25 (power), 36 VDD33 (power), 37 TXCLKIN+ (in), 38 TXCLKIN- (in), 39 TXIN0+ (in), 40 TXIN0- (in), 41 TXIN1+ (in), 42 TXIN1- (in), 43 TXIN2+ (in), 44 TXIN2- (in), 45 TXIN3+ (in), 46 TXIN3- (in), 47 TXIN4+ (in), 48 TXIN4- (in), 49 EP (power)

## DS32EL0421SQX/NOPB
designator U?
125 - 312.5 MHz FPGA-Link Serializer with DDR LVDS Parallel Interface, 48-pin LLP, Pb-Free; PartNumber: DS32EL0421SQX/NOPB; Manufacturer: National Semiconductor; PackageTopMarking: NS*UZXYTTE#*32EL0421; PowerWise: N; CompType: Interface IC; Published: 1-Mar-2010; DatasheetVersion: Jul-2008; PackageVersion: revB, May-2009; PackageReference: SQA48A; Publisher: Altium Limited; PackageDescription: LLP, Plastic, Quad, 7 x 7 x 0.8mm Body, 48 Lead, 0.5mm Pitch, No Pullback; Supplier 1: Digi-Key; Supplier Part Number 1: DS32EL0421SQX-ND; RoHS: Y; PinCount: 48; Code_JEDEC: MO-220-WKKD-2; ComponentLink1Description: DS32EL0421 Datasheet; ComponentLink1URL: http://www.national.com/ds/DS/DS32EL0421.pdf; ComponentLink2Description: DS32EL0421 Web Page; ComponentLink2URL: http://www.national.com/pf/DS/DS32EL0421.html; ComponentLink3Description: SQA48A Package Page; ComponentLink3URL: http://www.national.com/packaging/folders/sqa48a.html
footprint SQA48A (QFN, 48-Leads, Body 7x7mm, Pitch 0.5mm, NSC Recommended)
pins: 1 VDD33 (power), 2 NC, 3 GPIO0 (io), 4 GPIO1 (io), 5 ~{DC_B} (in), 6 ~{RS} (in), 7 VDD25 (power), 8 NC, 9 DE_EMPH0 (in), 10 DE_EMPH1 (in), 11 GPIO2 (io), 12 NC, 13 NC, 14 VOD_CTRL, 15 VDD25 (power), 16 TXOUT0+ (out), 17 TXOUT0- (out), 18 VDD25 (power), 19 NC, 20 NC, 21 NC, 22 NC, 23 NC, 24 NC, 25 VDD25 (power), 26 LF_REF, 27 LF_CP, 28 VDDPLL (power), 29 RSVD, 30 ~{RESET} (in), 31 ~{LOCK} (out), 32 SDA (io), 33 SCK (in), 34 SMB_CS (in), 35 VDD25 (power), 36 VDD33 (power), 37 TXCLKIN+ (in), 38 TXCLKIN- (in), 39 TXIN0+ (in), 40 TXIN0- (in), 41 TXIN1+ (in), 42 TXIN1- (in), 43 TXIN2+ (in), 44 TXIN2- (in), 45 TXIN3+ (in), 46 TXIN3- (in), 47 TXIN4+ (in), 48 TXIN4- (in), 49 EP (power)

## DS32ELX0124SQ
designator U?
125 - 312.5 MHz Deserializer with DDR LVDS Parallel Interface, 48-pin LLP; PartNumber: DS32ELX0124SQ; Manufacturer: National Semiconductor; PackageTopMarking: NS*UZXYTT*32ELX0124; PowerWise: N; CompType: Interface IC; Published: 4-Dec-2008; DatasheetVersion: Jul-2008; PackageVersion: revB, May-2009; PackageReference: SQA48A; Publisher: Altium Limited; PackageDescription: LLP, Plastic, Quad, 7 x 7 x 0.8mm Body, 48 Lead, 0.5mm Pitch, No Pullback; RoHS: Y; PinCount: 48; Code_JEDEC: MO-220-WKKD-2; ComponentLink1Description: DS32ELX0124 Datasheet; ComponentLink1URL: http://www.national.com/ds/DS/DS32ELX0124.pdf; ComponentLink2Description: DS32ELX0124 Web Page; ComponentLink2URL: http://www.national.com/pf/DS/DS32ELX0124.html; ComponentLink3Description: SQA48A Package Page; ComponentLink3URL: http://www.national.com/packaging/folders/sqa48a.html
footprint SQA48A (QFN, 48-Leads, Body 7x7mm, Pitch 0.5mm, NSC Recommended)
pins: 1 VDD33 (power), 2 LT_EN (in), 3 GPIO0 (io), 4 GPIO1 (io), 5 ~{DC_B} (in), 6 ~{RS} (in), 7 VDD25 (power), 8 NC, 9 NC, 10 NC, 11 GPIO2 (io), 12 RX_MUX_SEL (in), 13 NC, 14 VOD_CTRL, 15 VDD33 (power), 16 RXIN0+ (in), 17 RXIN0- (in), 18 VDD33 (power), 19 RXIN1+ (in), 20 RXIN1- (in), 21 TXOUT+ (out), 22 TXOUT- (out), 23 NC, 24 NC, 25 VDD25 (power), 26 LF_REF, 27 LF_CP, 28 VDDPLL (power), 29 NC, 30 ~{RESET} (in), 31 ~{LOCK} (oc), 32 SDA (io), 33 SCK (in), 34 SMB_CS (in), 35 VDD25 (power), 36 VDD33 (power), 37 RXCLKOUT+ (out), 38 RXCLKOUT- (out), 39 RXOUT0+ (out), 40 RXOUT0- (out), 41 RXOUT1+ (out), 42 RXOUT1- (out), 43 RXOUT2+ (out), 44 RXOUT2- (out), 45 RXOUT3+ (out), 46 RXOUT3- (out), 47 RXOUT4+ (out), 48 RXOUT4- (out), 49 EP (power)

## DS32ELX0124SQ/NOPB
designator U?
125 - 312.5 MHz Deserializer with DDR LVDS Parallel Interface, 48-pin LLP, Pb-Free; PartNumber: DS32ELX0124SQ/NOPB; Manufacturer: National Semiconductor; PackageTopMarking: NS*UZXYTTE#*32ELX0124; PowerWise: N; CompType: Interface IC; Published: 1-Mar-2010; DatasheetVersion: Jul-2008; PackageVersion: revB, May-2009; PackageReference: SQA48A; Publisher: Altium Limited; PackageDescription: LLP, Plastic, Quad, 7 x 7 x 0.8mm Body, 48 Lead, 0.5mm Pitch, No Pullback; Supplier 1: Digi-Key; Supplier Part Number 1: DS32ELX0124SQ-ND; RoHS: Y; PinCount: 48; Code_JEDEC: MO-220-WKKD-2; ComponentLink1Description: DS32ELX0124 Datasheet; ComponentLink1URL: http://www.national.com/ds/DS/DS32ELX0124.pdf; ComponentLink2Description: DS32ELX0124 Web Page; ComponentLink2URL: http://www.national.com/pf/DS/DS32ELX0124.html; ComponentLink3Description: SQA48A Package Page; ComponentLink3URL: http://www.national.com/packaging/folders/sqa48a.html
footprint SQA48A (QFN, 48-Leads, Body 7x7mm, Pitch 0.5mm, NSC Recommended)
pins: 1 VDD33 (power), 2 LT_EN (in), 3 GPIO0 (io), 4 GPIO1 (io), 5 ~{DC_B} (in), 6 ~{RS} (in), 7 VDD25 (power), 8 NC, 9 NC, 10 NC, 11 GPIO2 (io), 12 RX_MUX_SEL (in), 13 NC, 14 VOD_CTRL, 15 VDD33 (power), 16 RXIN0+ (in), 17 RXIN0- (in), 18 VDD33 (power), 19 RXIN1+ (in), 20 RXIN1- (in), 21 TXOUT+ (out), 22 TXOUT- (out), 23 NC, 24 NC, 25 VDD25 (power), 26 LF_REF, 27 LF_CP, 28 VDDPLL (power), 29 NC, 30 ~{RESET} (in), 31 ~{LOCK} (oc), 32 SDA (io), 33 SCK (in), 34 SMB_CS (in), 35 VDD25 (power), 36 VDD33 (power), 37 RXCLKOUT+ (out), 38 RXCLKOUT- (out), 39 RXOUT0+ (out), 40 RXOUT0- (out), 41 RXOUT1+ (out), 42 RXOUT1- (out), 43 RXOUT2+ (out), 44 RXOUT2- (out), 45 RXOUT3+ (out), 46 RXOUT3- (out), 47 RXOUT4+ (out), 48 RXOUT4- (out), 49 EP (power)

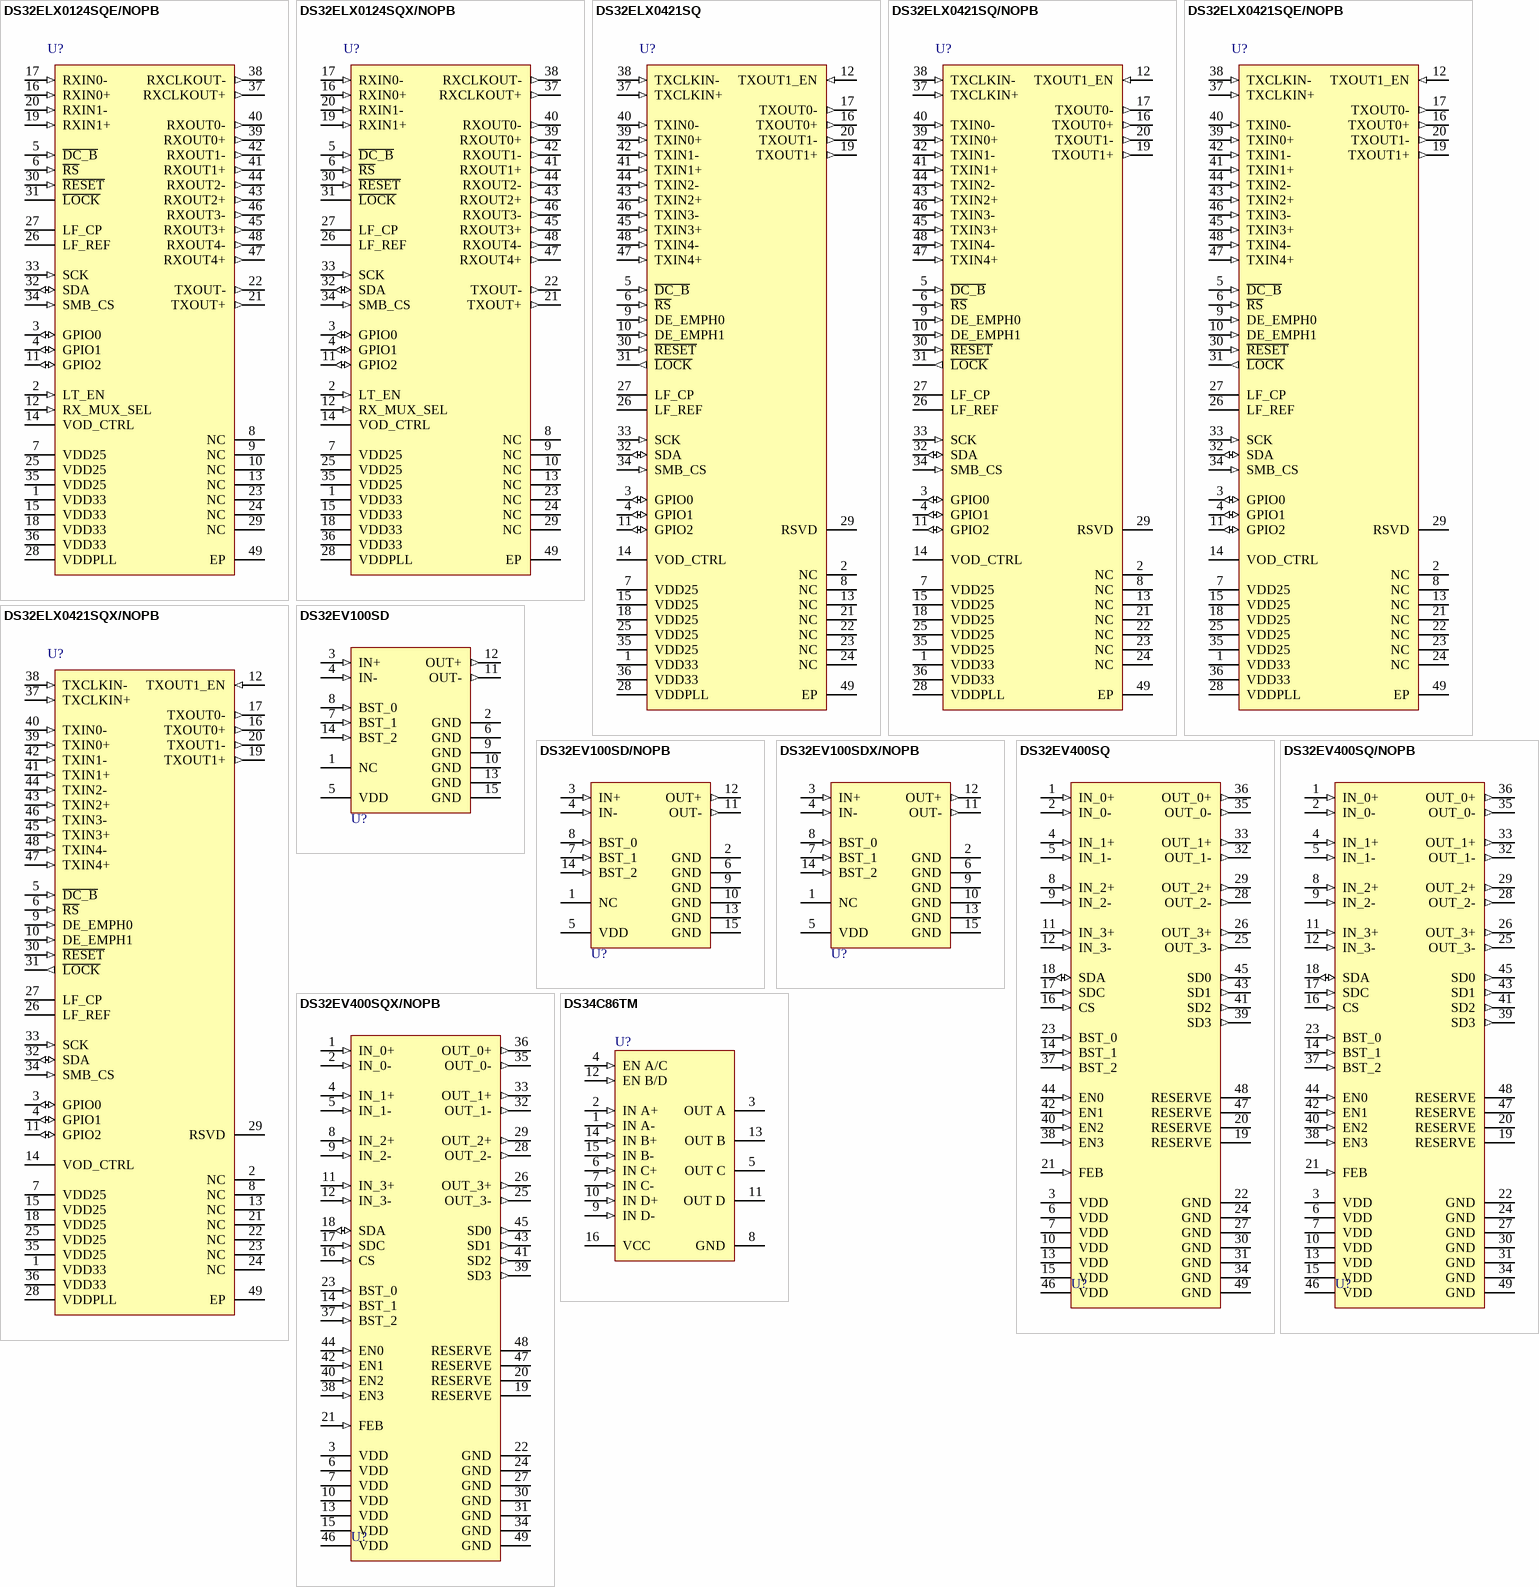
[diagram p21: symbols DS32ELX0124SQE/NOPB to DS34C86TM]

## DS32ELX0124SQE/NOPB
designator U?
125 - 312.5 MHz Deserializer with DDR LVDS Parallel Interface, 48-pin LLP, Pb-Free; PartNumber: DS32ELX0124SQE/NOPB; Manufacturer: National Semiconductor; PackageTopMarking: NS*UZXYTTE#*32ELX0124; PowerWise: N; CompType: Interface IC; Published: 1-Mar-2010; DatasheetVersion: Jul-2008; PackageVersion: revB, May-2009; PackageReference: SQA48A; Publisher: Altium Limited; PackageDescription: LLP, Plastic, Quad, 7 x 7 x 0.8mm Body, 48 Lead, 0.5mm Pitch, No Pullback; Supplier 1: Digi-Key; Supplier Part Number 1: DS32ELX0124SQETR-ND; Supplier 2: Digi-Key; Supplier Part Number 2: DS32ELX0124SQECT-ND; Supplier 3: Digi-Key; Supplier Part Number 3: DS32ELX0124SQEDKR-ND; RoHS: Y; PinCount: 48; Code_JEDEC: MO-220-WKKD-2; ComponentLink1Description: DS32ELX0124 Datasheet; ComponentLink1URL: http://www.national.com/ds/DS/DS32ELX0124.pdf; ComponentLink2Description: DS32ELX0124 Web Page; ComponentLink2URL: http://www.national.com/pf/DS/DS32ELX0124.html; ComponentLink3Description: SQA48A Package Page; ComponentLink3URL: http://www.national.com/packaging/folders/sqa48a.html
footprint SQA48A (QFN, 48-Leads, Body 7x7mm, Pitch 0.5mm, NSC Recommended)
pins: 1 VDD33 (power), 2 LT_EN (in), 3 GPIO0 (io), 4 GPIO1 (io), 5 ~{DC_B} (in), 6 ~{RS} (in), 7 VDD25 (power), 8 NC, 9 NC, 10 NC, 11 GPIO2 (io), 12 RX_MUX_SEL (in), 13 NC, 14 VOD_CTRL, 15 VDD33 (power), 16 RXIN0+ (in), 17 RXIN0- (in), 18 VDD33 (power), 19 RXIN1+ (in), 20 RXIN1- (in), 21 TXOUT+ (out), 22 TXOUT- (out), 23 NC, 24 NC, 25 VDD25 (power), 26 LF_REF, 27 LF_CP, 28 VDDPLL (power), 29 NC, 30 ~{RESET} (in), 31 ~{LOCK} (oc), 32 SDA (io), 33 SCK (in), 34 SMB_CS (in), 35 VDD25 (power), 36 VDD33 (power), 37 RXCLKOUT+ (out), 38 RXCLKOUT- (out), 39 RXOUT0+ (out), 40 RXOUT0- (out), 41 RXOUT1+ (out), 42 RXOUT1- (out), 43 RXOUT2+ (out), 44 RXOUT2- (out), 45 RXOUT3+ (out), 46 RXOUT3- (out), 47 RXOUT4+ (out), 48 RXOUT4- (out), 49 EP (power)

## DS32ELX0124SQX/NOPB
designator U?
125 - 312.5 MHz Deserializer with DDR LVDS Parallel Interface, 48-pin LLP, Pb-Free; PartNumber: DS32ELX0124SQX/NOPB; Manufacturer: National Semiconductor; PackageTopMarking: NS*UZXYTTE#*32ELX0124; PowerWise: N; CompType: Interface IC; Published: 1-Mar-2010; DatasheetVersion: Jul-2008; PackageVersion: revB, May-2009; PackageReference: SQA48A; Publisher: Altium Limited; PackageDescription: LLP, Plastic, Quad, 7 x 7 x 0.8mm Body, 48 Lead, 0.5mm Pitch, No Pullback; Supplier 1: Digi-Key; Supplier Part Number 1: DS32ELX0124SQX-ND; RoHS: Y; PinCount: 48; Code_JEDEC: MO-220-WKKD-2; ComponentLink1Description: DS32ELX0124 Datasheet; ComponentLink1URL: http://www.national.com/ds/DS/DS32ELX0124.pdf; ComponentLink2Description: DS32ELX0124 Web Page; ComponentLink2URL: http://www.national.com/pf/DS/DS32ELX0124.html; ComponentLink3Description: SQA48A Package Page; ComponentLink3URL: http://www.national.com/packaging/folders/sqa48a.html
footprint SQA48A (QFN, 48-Leads, Body 7x7mm, Pitch 0.5mm, NSC Recommended)
pins: 1 VDD33 (power), 2 LT_EN (in), 3 GPIO0 (io), 4 GPIO1 (io), 5 ~{DC_B} (in), 6 ~{RS} (in), 7 VDD25 (power), 8 NC, 9 NC, 10 NC, 11 GPIO2 (io), 12 RX_MUX_SEL (in), 13 NC, 14 VOD_CTRL, 15 VDD33 (power), 16 RXIN0+ (in), 17 RXIN0- (in), 18 VDD33 (power), 19 RXIN1+ (in), 20 RXIN1- (in), 21 TXOUT+ (out), 22 TXOUT- (out), 23 NC, 24 NC, 25 VDD25 (power), 26 LF_REF, 27 LF_CP, 28 VDDPLL (power), 29 NC, 30 ~{RESET} (in), 31 ~{LOCK} (oc), 32 SDA (io), 33 SCK (in), 34 SMB_CS (in), 35 VDD25 (power), 36 VDD33 (power), 37 RXCLKOUT+ (out), 38 RXCLKOUT- (out), 39 RXOUT0+ (out), 40 RXOUT0- (out), 41 RXOUT1+ (out), 42 RXOUT1- (out), 43 RXOUT2+ (out), 44 RXOUT2- (out), 45 RXOUT3+ (out), 46 RXOUT3- (out), 47 RXOUT4+ (out), 48 RXOUT4- (out), 49 EP (power)

## DS32ELX0421SQ
designator U?
125 - 312.5 MHz Serializer with DDR LVDS Parallel LVDS Interface, 48-pin LLP; PartNumber: DS32ELX0421SQ; Manufacturer: National Semiconductor; PackageTopMarking: NS*UZXYTT*32ELX0421; PowerWise: N; CompType: Interface IC; Published: 4-Dec-2008; DatasheetVersion: Jul-2008; PackageVersion: revB, May-2009; PackageReference: SQA48A; Publisher: Altium Limited; PackageDescription: LLP, Plastic, Quad, 7 x 7 x 0.8mm Body, 48 Lead, 0.5mm Pitch, No Pullback; RoHS: Y; PinCount: 48; Code_JEDEC: MO-220-WKKD-2; ComponentLink1Description: DS32ELX0421 Datasheet; ComponentLink1URL: http://www.national.com/ds/DS/DS32ELX0421.pdf; ComponentLink2Description: DS32ELX0421 Web Page; ComponentLink2URL: http://www.national.com/pf/DS/DS32ELX0421.html; ComponentLink3Description: SQA48A Package Page; ComponentLink3URL: http://www.national.com/packaging/folders/sqa48a.html
footprint SQA48A (QFN, 48-Leads, Body 7x7mm, Pitch 0.5mm, NSC Recommended)
pins: 1 VDD33 (power), 2 NC, 3 GPIO0 (io), 4 GPIO1 (io), 5 ~{DC_B} (in), 6 ~{RS} (in), 7 VDD25 (power), 8 NC, 9 DE_EMPH0 (in), 10 DE_EMPH1 (in), 11 GPIO2 (io), 12 TXOUT1_EN (in), 13 NC, 14 VOD_CTRL, 15 VDD25 (power), 16 TXOUT0+ (out), 17 TXOUT0- (out), 18 VDD25 (power), 19 TXOUT1+ (out), 20 TXOUT1- (out), 21 NC, 22 NC, 23 NC, 24 NC, 25 VDD25 (power), 26 LF_REF, 27 LF_CP, 28 VDDPLL (power), 29 RSVD, 30 ~{RESET} (in), 31 ~{LOCK} (out), 32 SDA (io), 33 SCK (in), 34 SMB_CS (in), 35 VDD25 (power), 36 VDD33 (power), 37 TXCLKIN+ (in), 38 TXCLKIN- (in), 39 TXIN0+ (in), 40 TXIN0- (in), 41 TXIN1+ (in), 42 TXIN1- (in), 43 TXIN2+ (in), 44 TXIN2- (in), 45 TXIN3+ (in), 46 TXIN3- (in), 47 TXIN4+ (in), 48 TXIN4- (in), 49 EP (power)